# Altium integrated library Infineon_Power_MOSFET.IntLib: 1448 symbols (part 1 of 47)
Pins are listed as number, name and electrical type; pins without a type are passive.

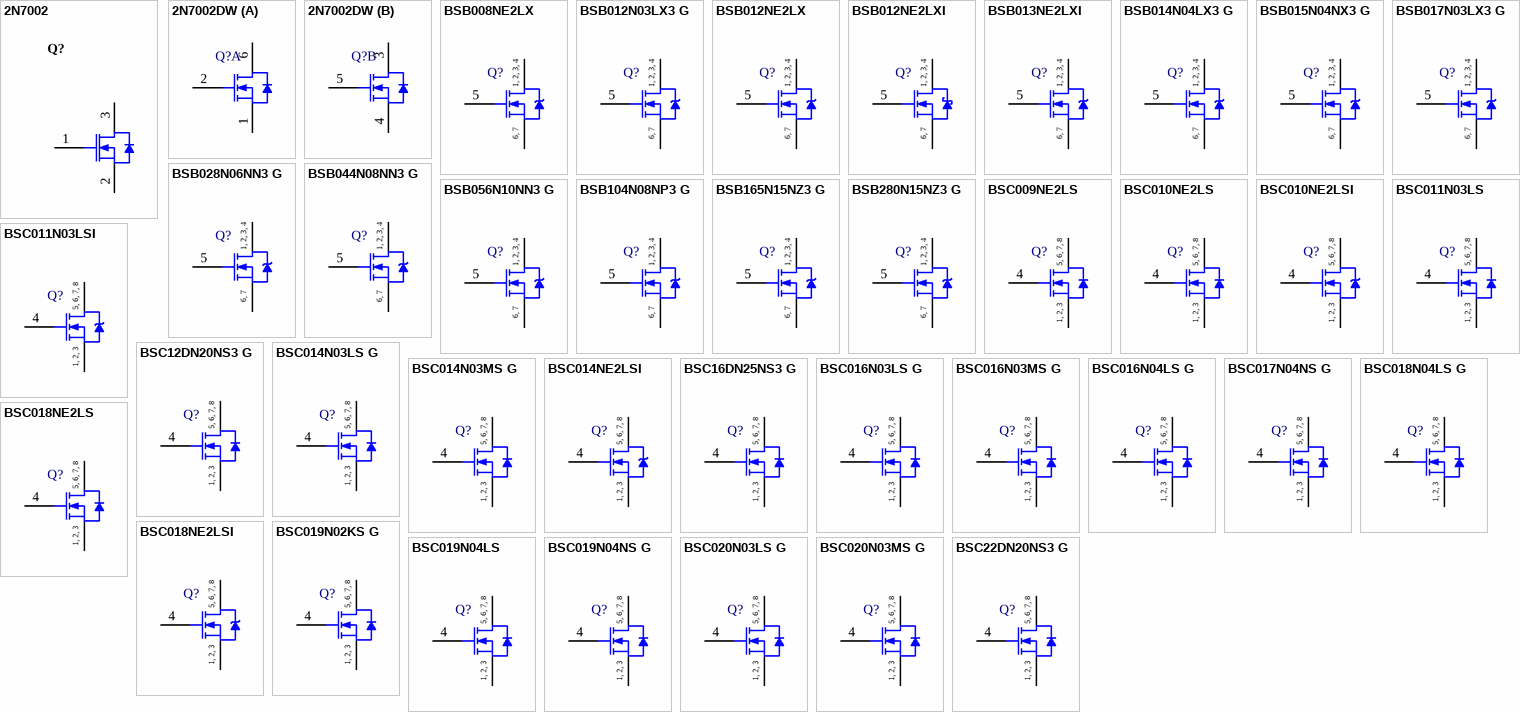
[diagram p0: symbols 2N7002 to BSC22DN20NS3 G]

## 2N7002
designator Q?
N-Channel OptiMOS Small-Signal-Transistor, 60 V VDS, 0.3 A ID, -55 to 150 degC, PG-SOT23, Reel, Green; Manufacturer: Infineon; PartNumber: 2N7002; Green: TRUE; ID (max): 0.3 A; IDpuls (max): 1.2 A; Ptot (max): 0.5 W; QG: 0.4 nC; RDS (on) (max): 3,000 mOhm; RDS (on) (max) (@4.5V): 4,000 mOhm; RthJA (max): 250 K/W; VDS (max): 60 V; VGS(th) (max): 2.5 V; VGS(th) (min): 1.5 V; DatasheetVersion: Rev. 2.4; PackageVersion: Apr-08; PackageReference: PG-SOT23; PackageDescription: 3-Pin Small Outline Transistor Package, 2.9 x 1.3 mm Body, 0.95 mm Pitch; Supplier 1: Arrow; Supplier Part Number 1: 6oGnorwKIcmhtwqcFeJ1owu1VFxg26S-d6kZGECfY84; Halogen-free: TRUE; Packing: Reel; Mounting Technology: Surface Mount; ComponentLink1Description: Manufacturer URL; ComponentLink1URL: http://www.infineon.com/; ComponentLink2Description: Datasheet; ComponentLink2URL: http://www.infineon.com/dgdl/2N7002_Rev2.4.pdf?folderId=db3a3043156fd573011622e10b5c1f67&fileId=db3a304319bc939a0119c2a9461e79e6; ComponentLink3Description: Package Specification; ComponentLink3URL: http://www.infineon.com/dgdl/SOT23-Package_Overview.pdf?folderId=db3a30431936bc4b0119532290053c66&fileId=db3a30431936bc4b0119533468123c85
footprint INF-PG-SOT23_N (SOT23, 3-Leads, Body 2.9x1.3mm, Pitch 0.95mm, IPC Medium Density)
footprint INF-PG-SOT23_L (SOT23, 3-Leads, Body 2.9x1.3mm, Pitch 0.95mm, IPC High Density)
footprint INF-PG-SOT23_M (SOT23, 3-Leads, Body 2.9x1.3mm, Pitch 0.95mm, IPC Low Density)
pins: 1 GATE, 2 SOURCE, 3 DRAIN

## 2N7002DW
designator Q?
N-Channel OptiMOS Small-Signal-Transistor, 60 V VDS, 0.3 A ID, -55 to 150 degC, PG-SOT-363, Reel, Green; Manufacturer: Infineon; PartNumber: 2N7002DW; Green: TRUE; ID (max): 0.3 A; IDpuls (max): 1.2 A; Ptot (max): 0.5 W; QG: 0.4 nC; RDS (on) (max): 3,000 mOhm; RDS (on) (max) (@4.5V): 4,000 mOhm; RthJA (max): 250 K/W; VDS (max): 60 V; VGS(th) (max): 2.5 V; VGS(th) (min): 1.5 V; DatasheetVersion: Rev. 2.2; PackageVersion: Apr-08; PackageReference: PG-SOT-363; PackageDescription: 6-Pin Small Outline Transistor Package, 2 x 1.25 mm Body, 0.65 mm Pitch; Halogen-free: TRUE; Packing: Reel; Mounting Technology: Surface Mount; ComponentLink1Description: Manufacturer URL; ComponentLink1URL: http://www.infineon.com/; ComponentLink2Description: Datasheet; ComponentLink2URL: http://www.infineon.com/dgdl/2N7002DW_Rev2.2_.pdf?folderId=db3a3043156fd573011622e10b5c1f67&fileId=db3a30431a5c32f2011ad94ed41363f2; ComponentLink3Description: Package Specification; ComponentLink3URL: http://www.infineon.com/dgdl/SOT363-Package_Overview.pdf?folderId=db3a30431936bc4b01195360bd8f3cdc&fileId=db3a30431936bc4b0119536b62bf3cf5
footprint INF-PG-SOT-363_N (SOT23, 3-Leads, Body 2x1.25mm, Pitch 0.65mm, IPC Medium Density)
footprint INF-PG-SOT-363_L (SOT23, 3-Leads, Body 2x1.25mm, Pitch 0.65mm, IPC High Density)
footprint INF-PG-SOT-363_M (SOT23, 3-Leads, Body 2x1.25mm, Pitch 0.65mm, IPC Low Density)
part A pins: 1 SOURCE (1), 2 GATE (1), 6 DRAIN (1)
part B pins: 3 DRAIN (2), 4 SOURCE (2), 5 GATE (2)

## BSB008NE2LX
designator Q?
N-Channel OptiMOS Power-MOSFET, 25 V VDS, 180 A ID, -40 to 150 degC, MG-WDSON-2-9, Reel, Green; Manufacturer: Infineon; PartNumber: BSB008NE2LX; Green: TRUE; ID (max): 180 A; IDpuls (max): 400 A; Polarity: N; Ptot (max): 89 W; QG: 258 nC; RDS (on) (max): 0.8 mOhm; RDS (on) (max) (@4.5V): 1 mOhm; Rth: 1 K/W; RthJA (max): 45 K/W; RthJC (max): 1.4 K/W; VDS (max): 25 V; VGS(th) (max): 2 V; VGS(th) (min): 1.2 V; DatasheetVersion: Rev. 1.3; PackageVersion: Jun-09; PackageReference: MG-WDSON-2-9; PackageDescription: 7-Pin Metal Green Very Very Thin Profile Dual Small Outline Non-Leaded Package; Halogen-free: TRUE; Packing: Reel; Mounting Technology: Surface Mount; ComponentLink1Description: Manufacturer URL; ComponentLink1URL: http://www.infineon.com/; ComponentLink2Description: Datasheet; ComponentLink2URL: http://www.infineon.com/dgdl/BSB008NE2LX_Rev+1.3.pdf?folderId=db3a304313b8b5a60113cee8763b02d7&fileId=db3a30432e564707012e5745ca7d000e; ComponentLink3Description: Package Specification; ComponentLink3URL: http://www.infineon.com/dgdl/MG-WDSON-2-MZ-Package_Overview.pdf?folderId=db3a30431f848401011fb831aa4a59a0&fileId=db3a30431f848401011fb8ae7cfb5a13
footprint INF-MG-WDSON-2-9_V (WDSON, 7-Leads, Body 5.5x4.93mm)
pins: 1 DRAIN, 2 DRAIN, 3 DRAIN, 4 DRAIN, 5 GATE, 6 SOURCE, 7 SOURCE
text: 1, 2, 3, 4; 6, 7

## BSB012N03LX3 G
designator Q?
N-Channel OptiMOS 3 Power-MOSFET, 30 V VDS, 180 A ID, -40 to 150 degC, MG-WDSON-2-8, Reel, Green; Manufacturer: Infineon; PartNumber: BSB012N03LX3 G; Green: TRUE; ID (max): 180 A; IDpuls (max): 400 A; Polarity: N; Ptot (max): 89 W; QG: 127 nC; RDS (on) (max): 1.2 mOhm; RDS (on) (max) (@4.5V): 1.8 mOhm; Rth: 1.4 K/W; RthJA (max): 45 K/W; RthJC (max): 1.4 K/W; VDS (max): 30 V; VGS(th) (max): 2.2 V; VGS(th) (min): 1 V; DatasheetVersion: Rev. 2.1; PackageVersion: Jun-09; PackageReference: MG-WDSON-2-8; PackageDescription: 7-Pin Metal Green Very Very Thin Profile Dual Small Outline Non-leaded Package; Supplier 1: Mouser; Supplier Part Number 1: 726-BS726-B012N03LX3; Supplier 2: Digi-Key; Supplier Part Number 2: BSB012N03LX3 GTR-ND; Supplier 3: Digi-Key; Supplier Part Number 3: BSB012N03LX3 GCT-ND; Supplier 4: Digi-Key; Supplier Part Number 4: BSB012N03LX3 GDKR-ND; Halogen-free: TRUE; Packing: Reel; Mounting Technology: Surface Mount; ComponentLink1Description: Manufacturer URL; ComponentLink1URL: http://www.infineon.com/; ComponentLink2Description: Datasheet; ComponentLink2URL: http://www.infineon.com/dgdl/BSB012N03LX3+G_Rev_+2.1_pdf.pdf?folderId=db3a304313b8b5a60113cee8763b02d7&fileId=db3a304320d39d590121a0112ce07a8b; ComponentLink3Description: Package Specification; ComponentLink3URL: http://www.infineon.com/dgdl/MG-WDSON-2-MX-Package_Overview.pdf?folderId=db3a30431f848401011fb8316d98599f&fileId=db3a30431f848401011fb8a9e1645a0a
footprint INF-MG-WDSON-2-8_V (WDSON, 7-Leads, Body 5.5x4.93mm)
pins: 1 DRAIN, 2 DRAIN, 3 DRAIN, 4 DRAIN, 5 GATE, 6 SOURCE, 7 SOURCE
text: 1, 2, 3, 4; 6, 7

## BSB012NE2LX
designator Q?
N-Channe OptiMOS Power-MOSFET, 25 V VDS, 170 A ID, -40 to 150 degC, MG-WDSON-2-8, Reel, Green; Manufacturer: Infineon; PartNumber: BSB012NE2LX; Green: TRUE; ID (max): 170 A; IDpuls (max): 400 A; Polarity: N; Ptot (max): 57 W; QG: 32 nC; RDS (on) (max): 1.2 mOhm; RDS (on) (max) (@4.5V): 1.6 mOhm; Rth: 1 K/W; RthJA (max): 45 K/W; RthJC (max): 2.2 K/W; VDS (max): 25 V; VGS(th) (max): 2 V; VGS(th) (min): 1.2 V; DatasheetVersion: Rev. 2.3; PackageVersion: Jun-09; PackageReference: MG-WDSON-2-8; PackageDescription: 7-Pin Metal Green Very Very Thin Profile Dual Small Outline Non-leaded Package; Supplier 1: Mouser; Supplier Part Number 1: 726-BSB012NE2LX; Supplier 2: Digi-Key; Supplier Part Number 2: BSB012NE2LXTR-ND; Supplier 3: Digi-Key; Supplier Part Number 3: BSB012NE2LXCT-ND; Supplier 4: Digi-Key; Supplier Part Number 4: BSB012NE2LXDKR-ND; Halogen-free: TRUE; Packing: Reel; Mounting Technology: Surface Mount; ComponentLink1Description: Manufacturer URL; ComponentLink1URL: http://www.infineon.com/; ComponentLink2Description: Datasheet; ComponentLink2URL: http://www.infineon.com/dgdl/BSB012NE2LX_Rev+2.3.pdf?folderId=db3a304326dfb1300126fb3bec803f1a&fileId=db3a304326dfb1300126fb6a32613f3d; ComponentLink3Description: Package Specification; ComponentLink3URL: http://www.infineon.com/dgdl/MG-WDSON-2-MX-Package_Overview.pdf?folderId=db3a30431f848401011fb8316d98599f&fileId=db3a30431f848401011fb8a9e1645a0a
footprint INF-MG-WDSON-2-8_V (WDSON, 7-Leads, Body 5.5x4.93mm)
pins: 1 DRAIN, 2 DRAIN, 3 DRAIN, 4 DRAIN, 5 GATE, 6 SOURCE, 7 SOURCE
text: 1, 2, 3, 4; 6, 7

## BSB012NE2LXI
designator Q?
N-Channel OptiMOS(TM) Power-MOSFET, 25 V VDS, 170 A ID, -40 to 150 degC, MG-WDSON-2, Reel, Green; Manufacturer: Infineon; PartNumber: BSB012NE2LXI; Green: TRUE; ID (max): 170 A; IDpuls (max): 400 A; Polarity: FALSE; Ptot (max): 57 W; QG: 30 nC; RDS (on) (max): 1.2 mOhm; RthJA (max): 45 K/W; RthJC (max): 1 K/W; VDS (max): 25 V; VGS(th) (max): 2 V; VGS(th) (min): 1.2 V; DatasheetVersion: Rev. 1.3; PackageVersion: Jun-09; PackageReference: MG-WDSON-2-8; PackageDescription: 7-Pin Metal Green Very Very Thin Profile Dual Small Outline Non-leaded Package; Supplier 1: Mouser; Supplier Part Number 1: N/A; Halogen-free: TRUE; Packing: Reel; Technology: OptiMOS(TM); Mounting Technology: Surface Mount; ComponentLink1Description: Manufacturer URL; ComponentLink1URL: http://www.infineon.com/; ComponentLink2Description: Datasheet; ComponentLink2URL: http://www.infineon.com/dgdl/BSB012NE2LXI_rev1.3.pdf?folderId=db3a304313b8b5a60113cee8763b02d7&fileId=db3a30433f764301013f805e3eb247c1; ComponentLink3Description: Package Specification; ComponentLink3URL: http://www.infineon.com/dgdl/MG-WDSON-2-MX-Package_Overview.pdf?folderId=db3a30431f848401011fb8316d98599f&fileId=db3a30431f848401011fb8a9e1645a0a
footprint INF-MG-WDSON-2-8_V (WDSON, 7-Leads, Body 5.5x4.93mm)
pins: 1 D, 2 D, 3 D, 4 D, 5 G, 6 S, 7 S
text: 1, 2, 3, 4; 6, 7

## BSB013NE2LXI
designator Q?
N-Channel OptiMOS Power MOSFET, 25 V VDS, 163 A ID, -40 to 150 degC, MG-WDSON-2-8, Reel, Green; Manufacturer: Infineon; PartNumber: BSB013NE2LXI; Green: TRUE; ID (max): 163 A; IDpuls (max): 400 A; Polarity: N; Ptot (max): 57 W; QG: 30 nC; RDS (on) (max): 1.3 mOhm; RDS (on) (max) (@4.5V): 1.8 mOhm; Rth: 1 K/W; RthJA (max): 45 K/W; RthJC (max): 2.2 K/W; VDS (max): 25 V; VGS(th) (max): 2 V; VGS(th) (min): 1.2 V; DatasheetVersion: Rev. 2.3; PackageVersion: Jun-09; PackageReference: MG-WDSON-2-8; PackageDescription: 7-Pin Metal Green Very Very Thin Profile Dual Small Outline Non-leaded Package; Supplier 1: Mouser; Supplier Part Number 1: 726-BSB013NE2LXI; Supplier 2: Digi-Key; Supplier Part Number 2: BSB013NE2LXITR-ND; Supplier 3: Digi-Key; Supplier Part Number 3: BSB013NE2LXICT-ND; Supplier 4: Digi-Key; Supplier Part Number 4: BSB013NE2LXIDKR-ND; Halogen-free: TRUE; Packing: Reel; Mounting Technology: Surface Mount; ComponentLink1Description: Manufacturer URL; ComponentLink1URL: http://www.infineon.com/; ComponentLink2Description: Datasheet; ComponentLink2URL: http://www.infineon.com/dgdl/BSB013NE2LXI_Rev+2.3.pdf?folderId=db3a304313b8b5a60113cee8763b02d7&fileId=db3a30432e398416012e47a158802577; ComponentLink3Description: Package Specification; ComponentLink3URL: http://www.infineon.com/dgdl/MG-WDSON-2-MX-Package_Overview.pdf?folderId=db3a30431f848401011fb8316d98599f&fileId=db3a30431f848401011fb8a9e1645a0a
footprint INF-MG-WDSON-2-8_V (WDSON, 7-Leads, Body 5.5x4.93mm)
pins: 1 DRAIN, 2 DRAIN, 3 DRAIN, 4 DRAIN, 5 GATE, 6 SOURCE, 7 SOURCE
text: 1, 2, 3, 4; 6, 7

## BSB014N04LX3 G
designator Q?
N-Channel OptiMOS Power-MOSFET, 40 V VDS, 180 A ID, -40 to 150 degC, MG-WDSON-2-8, Reel, Green; Manufacturer: Infineon; PartNumber: BSB014N04LX3 G; Green: TRUE; ID (max): 180 A; IDpuls (max): 400 A; Polarity: N; Ptot (max): 89 W; QG: 148 nC; RDS (on) (max): 1.4 mOhm; RDS (on) (max) (@4.5V): 2 mOhm; Rth: 1.4 K/W; RthJA (max): 45 K/W; VDS (max): 40 V; VGS(th) (max): 2 V; VGS(th) (min): 1.2 V; DatasheetVersion: Rev. 2.3; PackageVersion: Jun-09; PackageReference: MG-WDSON-2-8; PackageDescription: 7-Pin Metal Green Very Very Thin Profile Dual Small Outline Non-leaded Package; Supplier 1: Mouser; Supplier Part Number 1: 726-BS726-B014N04LX3; Supplier 2: Digi-Key; Supplier Part Number 2: BSB014N04LX3 GTR-ND; Supplier 3: Digi-Key; Supplier Part Number 3: BSB014N04LX3 GCT-ND; Supplier 4: Digi-Key; Supplier Part Number 4: BSB014N04LX3 GDKR-ND; Halogen-free: TRUE; Packing: Reel; RthJC (max): 1.4 K/W; Mounting Technology: Surface Mount; ComponentLink1Description: Manufacturer URL; ComponentLink1URL: http://www.infineon.com/; ComponentLink2Description: Datasheet; ComponentLink2URL: http://www.infineon.com/dgdl/BSB014N04LX3+G_Rev+2.3.pdf?folderId=db3a304313b8b5a60113cee8763b02d7&fileId=db3a304320d39d590121a02c6c737a9b; ComponentLink3Description: Package Specification; ComponentLink3URL: http://www.infineon.com/dgdl/MG-WDSON-2-MX-Package_Overview.pdf?folderId=db3a30431f848401011fb8316d98599f&fileId=db3a30431f848401011fb8a9e1645a0a
footprint INF-MG-WDSON-2-8_V (WDSON, 7-Leads, Body 5.5x4.93mm)
pins: 1 DRAIN, 2 DRAIN, 3 DRAIN, 4 DRAIN, 5 GATE, 6 SOURCE, 7 SOURCE
text: 1, 2, 3, 4; 6, 7

## BSB015N04NX3 G
designator Q?
N-Channel OptiMOS Power-MOSFET, 40 V VDS, 180 A ID, -40 to 150 degC, MG-WDSON-2-8, Reel, Green; Manufacturer: Infineon; PartNumber: BSB015N04NX3 G; Green: TRUE; ID (max): 180 A; IDpuls (max): 400 A; Polarity: N; Ptot (max): 89 W; QG: 107 nC; RDS (on) (max): 1.5 mOhm; Rth: 1.4 K/W; RthJA (max): 45 K/W; VDS (max): 40 V; VGS(th) (max): 4 V; VGS(th) (min): 2 V; DatasheetVersion: Rev. 2.4; PackageVersion: Jun-09; PackageReference: MG-WDSON-2-8; PackageDescription: 7-Pin Metal Green Very Very Thin Profile Dual Small Outline Non-leaded Package; Supplier 1: Mouser; Supplier Part Number 1: 726-BS726-B015N04NX3; Supplier 2: Digi-Key; Supplier Part Number 2: BSB015N04NX3 GTR-ND; Supplier 3: Digi-Key; Supplier Part Number 3: BSB015N04NX3 GCT-ND; Supplier 4: Digi-Key; Supplier Part Number 4: BSB015N04NX3 GDKR-ND; Halogen-free: TRUE; Packing: Reel; RthJC (max): 1.4 K/W; Mounting Technology: Surface Mount; ComponentLink1Description: Manufacturer URL; ComponentLink1URL: http://www.infineon.com/; ComponentLink2Description: Datasheet; ComponentLink2URL: http://www.infineon.com/dgdl/BSB015N04NX3+G_Rev+2.4.pdf?folderId=db3a304313b8b5a60113cee8763b02d7&fileId=db3a304320d39d590121a03bbfcd7aac; ComponentLink3Description: Package Specification; ComponentLink3URL: http://www.infineon.com/dgdl/MG-WDSON-2-MX-Package_Overview.pdf?folderId=db3a30431f848401011fb8316d98599f&fileId=db3a30431f848401011fb8a9e1645a0a
footprint INF-MG-WDSON-2-8_V (WDSON, 7-Leads, Body 5.5x4.93mm)
pins: 1 DRAIN, 2 DRAIN, 3 DRAIN, 4 DRAIN, 5 GATE, 6 SOURCE, 7 SOURCE
text: 1, 2, 3, 4; 6, 7

## BSB017N03LX3 G
designator Q?
N-Channel OptiMOS Power-MOSFET, 30 V VDS, 147 A ID, -40 to 150 degC, MG-WDSON-2-8, Reel, Green; Manufacturer: Infineon; PartNumber: BSB017N03LX3 G; Green: TRUE; ID (max): 147 A; IDpuls (max): 400 A; Polarity: N; Ptot (max): 57 W; QG: 37 nC; RDS (on) (max): 1.7 mOhm; RDS (on) (max) (@4.5V): 2.5 mOhm; Rth: 2.2 K/W; RthJA (max): 45 K/W; RthJC (max): 2.2 K/W; VDS (max): 30 V; VGS(th) (max): 2.2 V; VGS(th) (min): 1 V; DatasheetVersion: Rev. 2.2; PackageVersion: Jun-09; PackageReference: MG-WDSON-2-8; PackageDescription: 7-Pin Metal Green Very Very Thin Profile Dual Small Outline Non-leaded Package; Supplier 1: Mouser; Supplier Part Number 1: 726-BSB017N03LX3G; Supplier 2: Digi-Key; Supplier Part Number 2: BSB017N03LX3 GTR-ND; Supplier 3: Digi-Key; Supplier Part Number 3: BSB017N03LX3 GCT-ND; Supplier 4: Digi-Key; Supplier Part Number 4: BSB017N03LX3 GDKR-ND; Halogen-free: TRUE; Packing: Reel; Mounting Technology: Surface Mount; ComponentLink1Description: Manufacturer URL; ComponentLink1URL: http://www.infineon.com/; ComponentLink2Description: Datasheet; ComponentLink2URL: http://www.infineon.com/dgdl/BSB017N03LX3+G_Rev+2.2.pdf?folderId=db3a304313b8b5a60113cee8763b02d7&fileId=db3a304320d39d590121a04b132c7abb; ComponentLink3Description: Package Specification; ComponentLink3URL: http://www.infineon.com/dgdl/MG-WDSON-2-MX-Package_Overview.pdf?folderId=db3a30431f848401011fb8316d98599f&fileId=db3a30431f848401011fb8a9e1645a0a
footprint INF-MG-WDSON-2-8_V (WDSON, 7-Leads, Body 5.5x4.93mm)
pins: 1 DRAIN, 2 DRAIN, 3 DRAIN, 4 DRAIN, 5 GATE, 6 SOURCE, 7 SOURCE
text: 1, 2, 3, 4; 6, 7

## BSB028N06NN3 G
designator Q?
N-Channel OptiMOS 3 Power-MOSFET, 60 V VDS, 90 A ID, -40 to 150 degC, MG-WDSON-2-5, Reel, Green; Manufacturer: Infineon; PartNumber: BSB028N06NN3 G; Green: TRUE; ID (max): 90 A; IDpuls (max): 360 A; Polarity: N; Ptot (max): 78 W; QG: 108 nC; RDS (on) (max): 2.8 mOhm; Rth: 1 K/W; RthJA (max): 58 K/W; RthJC (max): 1.6 K/W; VDS (max): 60 V; VGS(th) (max): 4 V; VGS(th) (min): 2 V; DatasheetVersion: Rev. 2.0; PackageVersion: Jun-09; PackageReference: MG-WDSON-2-5; PackageDescription: 7-Pin Metal Green Very Very Thin Profile Dual Small Outline Non-Leaded Package; Supplier 1: Mouser; Supplier Part Number 1: 726-BSB028N06NN3G; Supplier 2: Digi-Key; Supplier Part Number 2: BSB028N06NN3 GTR-ND; Supplier 3: Digi-Key; Supplier Part Number 3: BSB028N06NN3 GCT-ND; Supplier 4: Digi-Key; Supplier Part Number 4: BSB028N06NN3 GDKR-ND; Halogen-free: TRUE; Packing: Reel; Mounting Technology: Surface Mount; ComponentLink1Description: Manufacturer URL; ComponentLink1URL: http://www.infineon.com/; ComponentLink2Description: Datasheet; ComponentLink2URL: http://www.infineon.com/dgdl/BSB028N06NN3_G_rev2.pdf?folderId=db3a30431441fb5d01148ca9f1be0e77&fileId=db3a30432e25b009012e29fda4e23838; ComponentLink3Description: Package Specification; ComponentLink3URL: http://www.infineon.com/dgdl/MG-WDSON-2-MN-Package_Overview.pdf?folderId=db3a30431f848401011fb830e5dc599d&fileId=db3a30431f848401011fb857204159b9
footprint INF-MG-WDSON-2-5_V (WDSON, 7-Leads, Body 5.5x4.93mm)
pins: 1 DRAIN, 2 DRAIN, 3 DRAIN, 4 DRAIN, 5 GATE, 6 SOURCE, 7 SOURCE
text: 1, 2, 3, 4; 6, 7

## BSB044N08NN3 G
designator Q?
N-Channel OptiMOS 3 Power-MOSFET, 80 V VDS, 90 A ID, -40 to 150 degC, MG-WDSON-2-5, Reel, Green; Manufacturer: Infineon; PartNumber: BSB044N08NN3 G; Green: TRUE; ID (max): 90 A; IDpuls (max): 360 A; Polarity: N; Ptot (max): 78 W; QG: 55 nC; RDS (on) (max): 4.4 mOhm; Rth: 1 K/W; RthJA (max): 58 K/W; RthJC (max): 1.6 K/W; VDS (max): 80 V; VGS(th) (max): 3.5 V; VGS(th) (min): 2 V; DatasheetVersion: Rev. 2.0; PackageVersion: Jun-09; PackageReference: MG-WDSON-2-5; PackageDescription: 7-Pin Metal Green Very Very Thin Profile Dual Small Outline Non-Leaded Package; Supplier 1: Mouser; Supplier Part Number 1: 726-BSB044N08NN3G; Supplier 2: Digi-Key; Supplier Part Number 2: BSB044N08NN3 GTR-ND; Supplier 3: Digi-Key; Supplier Part Number 3: BSB044N08NN3 GCT-ND; Supplier 4: Digi-Key; Supplier Part Number 4: BSB044N08NN3 GDKR-ND; Halogen-free: TRUE; Packing: Reel; Mounting Technology: Surface Mount; ComponentLink1Description: Manufacturer URL; ComponentLink1URL: http://www.infineon.com/; ComponentLink2Description: Datasheet; ComponentLink2URL: http://www.infineon.com/dgdl/BSB044N08NN3_G_rev2.pdf?folderId=db3a304313b8b5a60113cee8763b02d7&fileId=db3a30435819ae2e012e385cde7b70d4; ComponentLink3Description: Package Specification; ComponentLink3URL: http://www.infineon.com/dgdl/MG-WDSON-2-MN-Package_Overview.pdf?folderId=db3a30431f848401011fb830e5dc599d&fileId=db3a30431f848401011fb857204159b9
footprint INF-MG-WDSON-2-5_V (WDSON, 7-Leads, Body 5.5x4.93mm)
pins: 1 DRAIN, 2 DRAIN, 3 DRAIN, 4 DRAIN, 5 GATE, 6 SOURCE, 7 SOURCE
text: 1, 2, 3, 4; 6, 7

## BSB056N10NN3 G
designator Q?
N-Channel OptiMOS Power-MOSFET, 100 V VDS, 83 A ID, -40 to 150 degC, MG-WDSON-2-5, Reel, Green; Manufacturer: Infineon; PartNumber: BSB056N10NN3 G; Green: TRUE; ID (max): 83 A; IDpuls (max): 332 A; Polarity: N; Ptot (max): 78 W; QG: 56 nC; RDS (on) (max): 5.6 mOhm; Rth: 1.6 K/W; RthJA (max): 45 K/W; RthJC (max): 1.6 K/W; VDS (max): 100 V; VGS(th) (max): 3.5 V; VGS(th) (min): 2 V; DatasheetVersion: Rev. 2.5; PackageVersion: Jun-09; PackageReference: MG-WDSON-2-5; PackageDescription: 7-Pin Metal Green Very Very Thin Profile Dual Small Outline Non-Leaded Package; Supplier 1: Mouser; Supplier Part Number 1: 726-BSB056N10NN3G; Supplier 2: Digi-Key; Supplier Part Number 2: BSB056N10NN3 GTR-ND; Supplier 3: Digi-Key; Supplier Part Number 3: BSB056N10NN3 GCT-ND; Supplier 4: Digi-Key; Supplier Part Number 4: BSB056N10NN3 GDKR-ND; Halogen-free: TRUE; Packing: Reel; Mounting Technology: Surface Mount; ComponentLink1Description: Manufacturer URL; ComponentLink1URL: http://www.infineon.com/; ComponentLink2Description: Datasheet; ComponentLink2URL: http://www.infineon.com/dgdl/BSB056N10NN3+G_Rev+2.5.pdf?folderId=db3a304313b8b5a60113cee8763b02d7&fileId=db3a30442e152e91012e390b9a631459; ComponentLink3Description: Package Specification; ComponentLink3URL: http://www.infineon.com/dgdl/MG-WDSON-2-MN-Package_Overview.pdf?folderId=db3a30431f848401011fb830e5dc599d&fileId=db3a30431f848401011fb857204159b9
footprint INF-MG-WDSON-2-5_V (WDSON, 7-Leads, Body 5.5x4.93mm)
pins: 1 DRAIN, 2 DRAIN, 3 DRAIN, 4 DRAIN, 5 GATE, 6 SOURCE, 7 SOURCE
text: 1, 2, 3, 4; 6, 7

## BSB104N08NP3 G
designator Q?
N-Channel OptiMOS(TM) 3 Power-MOSFET, 80 V VDS, 50 A ID, MG-WDSON-2, Reel, Green; Manufacturer: Infineon; PartNumber: BSB104N08NP3 G; Green: TRUE; ID (max): 50 A; IDpuls (max): 200 A; Polarity: N; Ptot (max): 42 W; QG: 23 nC; RDS (on) (max): 10.4 Ohm; RthJA (max): 45 K/W; RthJC (max): 3 K/W; VDS (max): 80 V; VGS(th) (max): 3.5 V; VGS(th) (min): 2 V; DatasheetVersion: Rev. 2.1; PackageVersion: Jun-09; PackageReference: MG-WDSON-2-6; PackageDescription: 6-Pin Metal Green Very Very Thin Profile Dual Small Outline Non-leaded Package, 6.3 x 4.93 mm Body; Halogen-free: TRUE; Packing: Reel; Technology: OptiMOS(TM) 3; Mounting Technology: Surface Mount; ComponentLink1Description: Manufacturer URL; ComponentLink1URL: http://www.infineon.com/; ComponentLink2Description: Datasheet; ComponentLink2URL: http://www.infineon.com/dgdl/BSB104N08NP3_G_rev2.1_.pdf?folderId=db3a304313b8b5a60113cee8763b02d7&fileId=db3a304341e0aed00141efc548ca1b2b; ComponentLink3Description: Package Specification; ComponentLink3URL: http://www.infineon.com/dgdl/MG-WDSON-2-MP-Package_Overview.pdf?folderId=db3a30431f848401011fb8312917599e&fileId=db3a30431f848401011fb89a218659ef
footprint INF-MG-WDSON-2-6_V (WDSON, 7-Leads, Body 4.93x6.3mm)
pins: 1 DRAIN, 2 DRAIN, 3 DRAIN, 4 DRAIN, 5 GATE, 6 SOURCE, 7 SOURCE
text: 1, 2, 3, 4; 6, 7

## BSB165N15NZ3 G
designator Q?
N-Channel OptiMOS Power-MOSFET, 150 V VDS, 45 A ID, -40 to 150 degC, MG-WDSON-2-9, Reel, Green; Manufacturer: Infineon; PartNumber: BSB165N15NZ3 G; Green: TRUE; ID (max): 45 A; IDpuls (max): 180 A; Polarity: N; Ptot (max): 78 W; QG: 26 nC; RDS (on) (max): 16.5 mOhm; Rth: 1.6 K/W; RthJA (max): 45 K/W; RthJC (max): 1.6 K/W; VDS (max): 150 V; VGS(th) (max): 4 V; VGS(th) (min): 2 V; DatasheetVersion: Rev. 2.2; PackageVersion: Jun-09; PackageReference: MG-WDSON-2-9; PackageDescription: 7-Pin Metal Green Very Very Thin Profile Dual Small Outline Non-Leaded Package; Supplier 1: Mouser; Supplier Part Number 1: 726-BSB165N15NZ3G; Supplier 2: Digi-Key; Supplier Part Number 2: BSB165N15NZ3 GTR-ND; Supplier 3: Digi-Key; Supplier Part Number 3: BSB165N15NZ3 GCT-ND; Supplier 4: Digi-Key; Supplier Part Number 4: BSB165N15NZ3 GDKR-ND; Halogen-free: TRUE; Packing: Reel; Mounting Technology: Surface Mount; ComponentLink1Description: Manufacturer URL; ComponentLink1URL: http://www.infineon.com/; ComponentLink2Description: Datasheet; ComponentLink2URL: http://www.infineon.com/dgdl/BSB165N15NZ3+G+Rev+2.2.pdf?folderId=db3a304326623792012669f6bee2224b&fileId=db3a30432e779412012e7b04a1353843; ComponentLink3Description: Package Specification; ComponentLink3URL: http://www.infineon.com/dgdl/MG-WDSON-2-MZ-Package_Overview.pdf?folderId=db3a30431f848401011fb831aa4a59a0&fileId=db3a30431f848401011fb8ae7cfb5a13
footprint INF-MG-WDSON-2-9_V (WDSON, 7-Leads, Body 5.5x4.93mm)
pins: 1 DRAIN, 2 DRAIN, 3 DRAIN, 4 DRAIN, 5 GATE, 6 SOURCE, 7 SOURCE
text: 1, 2, 3, 4; 6, 7

## BSB280N15NZ3 G
designator Q?
N-Channel OptiMOS Power-MOSFET, 150 V VDS, 30 A ID, -40 to 150 degC, MG-WDSON-2-9, Reel, Green; Manufacturer: Infineon; PartNumber: BSB280N15NZ3 G; Green: TRUE; ID (max): 30 A; IDpuls (max): 120 A; Polarity: N; Ptot (max): 57 W; QG: 15 nC; RDS (on) (max): 28 mOhm; Rth: 2.2 K/W; RthJA (max): 45 K/W; RthJC (max): 2.2 K/W; VDS (max): 150 V; VGS(th) (max): 4 V; VGS(th) (min): 2 V; DatasheetVersion: Rev. 2.5; PackageVersion: Jun-09; PackageReference: MG-WDSON-2-9; PackageDescription: 7-Pin Metal Green Very Very Thin Profile Dual Small Outline Non-Leaded Package; Supplier 1: Mouser; Supplier Part Number 1: 726-BSB280N15NZ3G; Supplier 2: Digi-Key; Supplier Part Number 2: BSB280N15NZ3 GTR-ND; Supplier 3: Digi-Key; Supplier Part Number 3: BSB280N15NZ3 GCT-ND; Supplier 4: Digi-Key; Supplier Part Number 4: BSB280N15NZ3 GDKR-ND; Halogen-free: TRUE; Packing: Reel; Mounting Technology: Surface Mount; ComponentLink1Description: Manufacturer URL; ComponentLink1URL: http://www.infineon.com/; ComponentLink2Description: Datasheet; ComponentLink2URL: http://www.infineon.com/dgdl/BSB280N15NZ3+G+Rev+2.5_.pdf?folderId=db3a304326623792012669f6bee2224b&fileId=db3a30432e779412012e7b0b544c3852; ComponentLink3Description: Package Specification; ComponentLink3URL: http://www.infineon.com/dgdl/MG-WDSON-2-MZ-Package_Overview.pdf?folderId=db3a30431f848401011fb831aa4a59a0&fileId=db3a30431f848401011fb8ae7cfb5a13
footprint INF-MG-WDSON-2-9_V (WDSON, 7-Leads, Body 5.5x4.93mm)
pins: 1 DRAIN, 2 DRAIN, 3 DRAIN, 4 DRAIN, 5 GATE, 6 SOURCE, 7 SOURCE
text: 1, 2, 3, 4; 6, 7

## BSC009NE2LS
designator Q?
N-Channel OptiMOS Power-MOSFET, 25 V VDS, 100 A ID, -55 to 150 degC, PG-TDSON-8-1, Reel, Green; Manufacturer: Infineon; PartNumber: BSC009NE2LS; Green: TRUE; ID (max): 100 A; IDpuls (max): 400 A; Polarity: N; Ptot (max): 96 W; QG: 72 nC; RDS (on) (max): 0.9 mOhm; RDS (on) (max) (@4.5V): 1.2 mOhm; Rth: 1.3 K/W; RthJA (max): 50 K/W; RthJC (max): 1.3 K/W; VDS (max): 25 V; VGS(th) (max): 2.2 V; VGS(th) (min): 1 V; DatasheetVersion: Rev. 2.1; PackageReference: PG-TDSON-8-1; PackageDescription: 8-Pin Plastic (Green) Thin Dual Small Outline Non-Leaded Package, 5.15 x 5.9 mm Body, 1.27 mm Pitch; Supplier 1: Digi-Key; Supplier Part Number 1: BSC009NE2LSTR-ND; Supplier 2: Digi-Key; Supplier Part Number 2: BSC009NE2LSCT-ND; Supplier 3: Digi-Key; Supplier Part Number 3: BSC009NE2LSDKR-ND; Halogen-free: TRUE; Packing: Reel; Mounting Technology: Surface Mount; ComponentLink1Description: Manufacturer URL; ComponentLink1URL: http://www.infineon.com/; ComponentLink2Description: Datasheet; ComponentLink2URL: http://www.infineon.com/dgdl/BSC009NE2LS_Rev+2.1.pdf?folderId=db3a304313b8b5a60113cee8763b02d7&fileId=db3a304332d040720132dd4232240e1d; ComponentLink3Description: Package Specification; ComponentLink3URL: http://www.infineon.com/cms/packages/SMD_-_Surface_Mounted_Devices/P-PG-TDSON/P-PG-TDSON-08-01x_2x_3.html?__locale=en
footprint INF-PG-TDSON-8-1_V (TDSON, 8-Leads, Body 6.15x5.15mm, Pitch 1.27mm)
pins: 1 SOURCE, 2 SOURCE, 3 SOURCE, 4 GATE, 5 DRAIN, 6 DRAIN, 7 DRAIN, 8 DRAIN
text: 5, 6, 7, 8; 1, 2, 3

## BSC010NE2LS
designator Q?
N-Channel Power MOSFET, 25 V VDS, 100 A ID, -55 to 150 degC, PG-TDSON-8-1, Reel, Green; Manufacturer: Infineon; PartNumber: BSC010NE2LS; Green: TRUE; ID (max): 100 A; IDpuls (max): 400 A; Polarity: N; Ptot (max): 96 W; QG: 64 nC; RDS (on) (max): 1 mOhm; RDS (on) (max) (@4.5V): 1.3 mOhm; Rth: 1.3 K/W; RthJA (max): 50 K/W; RthJC (max): 1.3 K/W; VDS (max): 25 V; VGS(th) (max): 2 V; VGS(th) (min): 1.2 V; DatasheetVersion: Rev. 2.1; PackageReference: PG-TDSON-8-1; PackageDescription: 8-Pin Plastic (Green) Thin Dual Small Outline Non-Leaded Package, 5.15 x 5.9 mm Body, 1.27 mm Pitch; Supplier 1: Mouser; Supplier Part Number 1: 726-BSC010NE2LS; Supplier 2: Digi-Key; Supplier Part Number 2: BSC010NE2LSTR-ND; Supplier 3: Digi-Key; Supplier Part Number 3: BSC010NE2LSCT-ND; Supplier 4: Digi-Key; Supplier Part Number 4: BSC010NE2LSDKR-ND; Halogen-free: TRUE; Packing: Reel; Mounting Technology: Surface Mount; ComponentLink1Description: Manufacturer URL; ComponentLink1URL: http://www.infineon.com/; ComponentLink2Description: Datasheet; ComponentLink2URL: http://www.infineon.com/dgdl/BSC010NE2LS_Rev+2.1.pdf?folderId=db3a304326dfb1300126fb3bec803f1a&fileId=db3a304326dfb1300126fb3d176a3f1b; ComponentLink3Description: Package Specification; ComponentLink3URL: http://www.infineon.com/cms/packages/SMD_-_Surface_Mounted_Devices/P-PG-TDSON/P-PG-TDSON-08-01x_2x_3.html?__locale=en
footprint INF-PG-TDSON-8-1_V (TDSON, 8-Leads, Body 6.15x5.15mm, Pitch 1.27mm)
pins: 1 SOURCE, 2 SOURCE, 3 SOURCE, 4 GATE, 5 DRAIN, 6 DRAIN, 7 DRAIN, 8 DRAIN
text: 5, 6, 7, 8; 1, 2, 3

## BSC010NE2LSI
designator Q?
N-Channel Power MOSFET, 25 V VDS, 100 A ID, -55 to 150 degC, PG-TDSON-8-1, Reel, Green; Manufacturer: Infineon; PartNumber: BSC010NE2LSI; Green: TRUE; ID (max): 100 A; IDpuls (max): 400 A; Polarity: N; Ptot (max): 96 W; QG: 59 nC; RDS (on) (max): 15 mOhm; RDS (on) (max) (@4.5V): 1.4 mOhm; Rth: 1.3 K/W; RthJA (max): 50 K/W; RthJC (max): 1.3 K/W; VDS (max): 25 V; VGS(th) (max): 2 V; VGS(th) (min): 1.2 V; DatasheetVersion: Rev. 2.1; PackageReference: PG-TDSON-8-1; PackageDescription: 8-Pin Plastic (Green) Thin Dual Small Outline Non-Leaded Package, 5.15 x 5.9 mm Body, 1.27 mm Pitch; Supplier 1: Mouser; Supplier Part Number 1: 726-BSC010NE2LSI; Supplier 2: Digi-Key; Supplier Part Number 2: BSC010NE2LSITR-ND; Supplier 3: Digi-Key; Supplier Part Number 3: BSC010NE2LSICT-ND; Supplier 4: Digi-Key; Supplier Part Number 4: BSC010NE2LSIDKR-ND; Halogen-free: TRUE; Packing: Reel; Mounting Technology: Surface Mount; ComponentLink1Description: Manufacturer URL; ComponentLink1URL: http://www.infineon.com/; ComponentLink2Description: Datasheet; ComponentLink2URL: http://www.infineon.com/dgdl/BSC010NE2LSI_Rev+2.1_.pdf?folderId=db3a304313b8b5a60113cee8763b02d7&fileId=db3a30433072cd8f01308d8d1cdf33de; ComponentLink3Description: Package Specification; ComponentLink3URL: http://www.infineon.com/cms/packages/SMD_-_Surface_Mounted_Devices/P-PG-TDSON/P-PG-TDSON-08-01x_2x_3.html?__locale=en
footprint INF-PG-TDSON-8-1_V (TDSON, 8-Leads, Body 6.15x5.15mm, Pitch 1.27mm)
pins: 1 SOURCE, 2 SOURCE, 3 SOURCE, 4 GATE, 5 DRAIN, 6 DRAIN, 7 DRAIN, 8 DRAIN
text: 5, 6, 7, 8; 1, 2, 3

## BSC011N03LS
designator Q?
N-Channel OptiMOS Power-MOSFET, 30 V VDS, 100 A ID, -55 to 150 degC, PG-TDSON-8-1, Reel, Green; Manufacturer: Infineon; PartNumber: BSC011N03LS; Green: TRUE; ID (max): 100 A; IDpuls (max): 400 A; Polarity: N; Ptot (max): 96 W; QG: 72 nC; RDS (on) (max): 1.1 mOhm; RDS (on) (max) (@4.5V): 1.4 mOhm; Rth: 1.3 K/W; RthJA (max): 50 K/W; RthJC (max): 1.3 K/W; VDS (max): 30 V; VGS(th) (max): 2 V; VGS(th) (min): 1.2 V; DatasheetVersion: Rev. 2.1; PackageReference: PG-TDSON-8-1; PackageDescription: 8-Pin Plastic (Green) Thin Dual Small Outline Non-Leaded Package, 5.15 x 5.9 mm Body, 1.27 mm Pitch; Supplier 1: Mouser; Supplier Part Number 1: 726-BSC011N03LS; Supplier 2: Digi-Key; Supplier Part Number 2: BSC011N03LSTR-ND; Supplier 3: Digi-Key; Supplier Part Number 3: BSC011N03LSCT-ND; Supplier 4: Digi-Key; Supplier Part Number 4: BSC011N03LSDKR-ND; Halogen-free: TRUE; Packing: Reel; Mounting Technology: Surface Mount; ComponentLink1Description: Manufacturer URL; ComponentLink1URL: http://www.infineon.com/; ComponentLink2Description: Datasheet; ComponentLink2URL: http://www.infineon.com/dgdl/BSC011N03LS_Rev+2.1_.pdf?folderId=db3a304313b8b5a60113cee8763b02d7&fileId=db3a30432c64a60d012cbb2c20ff02a0; ComponentLink3Description: Package Specification; ComponentLink3URL: http://www.infineon.com/cms/packages/SMD_-_Surface_Mounted_Devices/P-PG-TDSON/P-PG-TDSON-08-01x_2x_3.html?__locale=en
footprint INF-PG-TDSON-8-1_V (TDSON, 8-Leads, Body 6.15x5.15mm, Pitch 1.27mm)
pins: 1 SOURCE, 2 SOURCE, 3 SOURCE, 4 GATE, 5 DRAIN, 6 DRAIN, 7 DRAIN, 8 DRAIN
text: 5, 6, 7, 8; 1, 2, 3

## BSC011N03LSI
designator Q?
N-Channel Power MOSFET, 30 V VDS, 100 A ID, -55 to 150 degC, PG-TDSON-8-1, Reel, Green; Manufacturer: Infineon; PartNumber: BSC011N03LSI; Green: TRUE; ID (max): 100 A; IDpuls (max): 400 A; Polarity: N; Ptot (max): 96 W; QG: 68 nC; RDS (on) (max): 1.1 mOhm; RDS (on) (max) (@4.5V): 1.5 mOhm; Rth: 1.3 K/W; RthJA (max): 50 K/W; RthJC (max): 1.3 K/W; VDS (max): 30 V; VGS(th) (max): 2 V; VGS(th) (min): 1.2 V; DatasheetVersion: Rev. 2.1; PackageReference: PG-TDSON-8-1; PackageDescription: 8-Pin Plastic (Green) Thin Dual Small Outline Non-Leaded Package, 5.15 x 5.9 mm Body, 1.27 mm Pitch; Supplier 1: Digi-Key; Supplier Part Number 1: BSC011N03LSITR-ND; Supplier 2: Digi-Key; Supplier Part Number 2: BSC011N03LSICT-ND; Supplier 3: Digi-Key; Supplier Part Number 3: BSC011N03LSIDKR-ND; Halogen-free: TRUE; Packing: Reel; Mounting Technology: Surface Mount; ComponentLink1Description: Manufacturer URL; ComponentLink1URL: http://www.infineon.com/; ComponentLink2Description: Datasheet; ComponentLink2URL: http://www.infineon.com/dgdl/BSC011N03LSI_Rev_2.1.pdf?folderId=db3a304313b8b5a60113cee8763b02d7&fileId=db3a30433072cd8f013097dfdcc22f66; ComponentLink3Description: Package Specification; ComponentLink3URL: http://www.infineon.com/cms/packages/SMD_-_Surface_Mounted_Devices/P-PG-TDSON/P-PG-TDSON-08-01x_2x_3.html?__locale=en
footprint INF-PG-TDSON-8-1_V (TDSON, 8-Leads, Body 6.15x5.15mm, Pitch 1.27mm)
pins: 1 SOURCE, 2 SOURCE, 3 SOURCE, 4 GATE, 5 DRAIN, 6 DRAIN, 7 DRAIN, 8 DRAIN
text: 5, 6, 7, 8; 1, 2, 3

## BSC12DN20NS3 G
designator Q?
N-Channel OptiMOS 3 Power-Transistor, 200 V VDS, 11.3 A ID, -55 to 150 degC, PG-TDSON-8-1, Reel, Green; Manufacturer: Infineon; PartNumber: BSC12DN20NS3 G; Green: TRUE; ID (max): 11.3 A; IDpuls (max): 45 A; Polarity: N; Ptot (max): 50 W; QG: 6.5 nC; RDS (on) (max): 125 mOhm; Rth: 2.5 K/W; RthJA (max): 50 K/W; RthJC (max): 2.5 K/W; VDS (max): 200 V; VGS(th) (max): 4 V; VGS(th) (min): 2 V; DatasheetVersion: Rev. 2.2; PackageReference: PG-TDSON-8-1; PackageDescription: 8-Pin Plastic (Green) Thin Dual Small Outline Non-Leaded Package, 5.15 x 5.9 mm Body, 1.27 mm Pitch; Supplier 1: Digi-Key; Supplier Part Number 1: BSC12DN20NS3GTR-ND; Supplier 2: Digi-Key; Supplier Part Number 2: BSC12DN20NS3GCT-ND; Supplier 3: Digi-Key; Supplier Part Number 3: BSC12DN20NS3GDKR-ND; Halogen-free: TRUE; Packing: Reel; Mounting Technology: Surface Mount; ComponentLink1Description: Manufacturer URL; ComponentLink1URL: http://www.infineon.com/; ComponentLink2Description: Datasheet; ComponentLink2URL: http://www.infineon.com/dgdl/BSC12DN20NS3+Rev2.2.pdf?folderId=db3a304325305e6d012596c6ca7b290a&fileId=db3a30432ad629a6012b146334d419ec; ComponentLink3Description: Package Specification; ComponentLink3URL: http://www.infineon.com/cms/packages/SMD_-_Surface_Mounted_Devices/P-PG-TDSON/P-PG-TDSON-08-01x_2x_3.html?__locale=en
footprint INF-PG-TDSON-8-1_V (TDSON, 8-Leads, Body 6.15x5.15mm, Pitch 1.27mm)
pins: 1 SOURCE, 2 SOURCE, 3 SOURCE, 4 GATE, 5 DRAIN, 6 DRAIN, 7 DRAIN, 8 DRAIN
text: 5, 6, 7, 8; 1, 2, 3

## BSC014N03LS G
designator Q?
N-Channel OptiMOS 3 Power-MOSFET, 30 V VDS, 100 A ID, -55 to 150 degC, PG-TDSON-8-1, Reel, Green; Manufacturer: Infineon; PartNumber: BSC014N03LS G; Green: TRUE; ID (max): 100 A; IDpuls (max): 400 A; Polarity: N; Ptot (max): 139 W; QG: 47 nC; RDS (on) (max): 1.4 mOhm; RDS (on) (max) (@4.5V): 2.1 mOhm; Rth: 0.9 K/W; RthJA (max): 50 K/W; VDS (max): 30 V; VGS(th) (max): 2.2 V; VGS(th) (min): 1 V; DatasheetVersion: Rev. 1.3; PackageReference: PG-TDSON-8-1; PackageDescription: 8-Pin Plastic (Green) Thin Dual Small Outline Non-Leaded Package, 5.15 x 5.9 mm Body, 1.27 mm Pitch; Supplier 1: Mouser; Supplier Part Number 1: 726-BSC014N03LSG; Supplier 2: Digi-Key; Supplier Part Number 2: BSC014N03LS GTR-ND; Supplier 3: Digi-Key; Supplier Part Number 3: BSC014N03LS GCT-ND; Supplier 4: Digi-Key; Supplier Part Number 4: BSC014N03LS GDKR-ND; Halogen-free: TRUE; Packing: Reel; RthJC (max): 0.9 K/W; Mounting Technology: Surface Mount; ComponentLink1Description: Manufacturer URL; ComponentLink1URL: http://www.infineon.com/; ComponentLink2Description: Datasheet; ComponentLink2URL: http://www.infineon.com/dgdl/BSC014N03LS_rev1.3.pdf?folderId=db3a304313b8b5a60113cee8ed2a02db&fileId=db3a30431be39b97011c23384f5d77fb; ComponentLink3Description: Package Specification; ComponentLink3URL: http://www.infineon.com/cms/packages/SMD_-_Surface_Mounted_Devices/P-PG-TDSON/P-PG-TDSON-08-01x_2x_3.html?__locale=en
footprint INF-PG-TDSON-8-1_V (TDSON, 8-Leads, Body 6.15x5.15mm, Pitch 1.27mm)
pins: 1 SOURCE, 2 SOURCE, 3 SOURCE, 4 GATE, 5 DRAIN, 6 DRAIN, 7 DRAIN, 8 DRAIN
text: 5, 6, 7, 8; 1, 2, 3

## BSC014N03MS G
designator Q?
N-Channel OptiMOS 3 M-Series Power-MOSFET, 30 V VDS, 100 A ID, -55 to 150 degC, PG-TDSON-8-1, Reel, Green; Manufacturer: Infineon; PartNumber: BSC014N03MS G; Green: TRUE; ID (max): 100 A; IDpuls (max): 400 A; Polarity: N; Ptot (max): 139 W; QG: 63 nC; RDS (on) (max): 1.4 mOhm; RDS (on) (max) (@4.5V): 1.75 mOhm; Rth: 0.9 K/W; RthJA (max): 50 K/W; VDS (max): 30 V; VGS(th) (max): 2 V; VGS(th) (min): 1 V; DatasheetVersion: Rev. 1.5; PackageReference: PG-TDSON-8-1; PackageDescription: 8-Pin Plastic (Green) Thin Dual Small Outline Non-Leaded Package, 5.15 x 5.9 mm Body, 1.27 mm Pitch; Supplier 1: Mouser; Supplier Part Number 1: 726-BSC014N03MSG; Supplier 2: Digi-Key; Supplier Part Number 2: BSC014N03MS GTR-ND; Supplier 3: Digi-Key; Supplier Part Number 3: BSC014N03MS GCT-ND; Supplier 4: Digi-Key; Supplier Part Number 4: BSC014N03MS GDKR-ND; Halogen-free: TRUE; Packing: Reel; RthJC (max): 0.9 K/W; Mounting Technology: Surface Mount; ComponentLink1Description: Manufacturer URL; ComponentLink1URL: http://www.infineon.com/; ComponentLink2Description: Datasheet; ComponentLink2URL: http://www.infineon.com/dgdl/BSC014N03MSG_rev1.5.pdf?folderId=db3a304313d846880113d91d60c500c4&fileId=db3a304319c6f18c011a38f5a96704e8; ComponentLink3Description: Package Specification; ComponentLink3URL: http://www.infineon.com/cms/packages/SMD_-_Surface_Mounted_Devices/P-PG-TDSON/P-PG-TDSON-08-01x_2x_3.html?__locale=en
footprint INF-PG-TDSON-8-1_V (TDSON, 8-Leads, Body 6.15x5.15mm, Pitch 1.27mm)
pins: 1 SOURCE, 2 SOURCE, 3 SOURCE, 4 GATE, 5 DRAIN, 6 DRAIN, 7 DRAIN, 8 DRAIN
text: 5, 6, 7, 8; 1, 2, 3

## BSC014NE2LSI
designator Q?
N-Channel OptiMOS Power-MOSFET, 25 V VDS, 100 A ID, -55 to 150 degC, PG-TDSON-8-1, Reel, Green; Manufacturer: Infineon; PartNumber: BSC014NE2LSI; Green: TRUE; ID (max): 100 A; IDpuls (max): 400 A; Polarity: N; Ptot (max): 74 W; QG: 39 nC; RDS (on) (max): 1.4 mOhm; RDS (on) (max) (@4.5V): 2 mOhm; Rth: 1.7 K/W; RthJA (max): 50 K/W; RthJC (max): 1.7 K/W; VDS (max): 25 V; VGS(th) (max): 2 V; VGS(th) (min): 1.2 V; DatasheetVersion: Rev. 2.1; PackageReference: PG-TDSON-8-1; PackageDescription: 8-Pin Plastic (Green) Thin Dual Small Outline Non-Leaded Package, 5.15 x 5.9 mm Body, 1.27 mm Pitch; Supplier 1: Digi-Key; Supplier Part Number 1: BSC014NE2LSITR-ND; Supplier 2: Digi-Key; Supplier Part Number 2: BSC014NE2LSICT-ND; Supplier 3: Digi-Key; Supplier Part Number 3: BSC014NE2LSIDKR-ND; Halogen-free: TRUE; Packing: Reel; Mounting Technology: Surface Mount; ComponentLink1Description: Manufacturer URL; ComponentLink1URL: http://www.infineon.com/; ComponentLink2Description: Datasheet; ComponentLink2URL: http://www.infineon.com/dgdl/BSC014NE2LSI_Rev+2.1_.pdf?folderId=db3a304313b8b5a60113cee8763b02d7&fileId=db3a30433072cd8f013093b0024571b1; ComponentLink3Description: Package Specification; ComponentLink3URL: http://www.infineon.com/cms/packages/SMD_-_Surface_Mounted_Devices/P-PG-TDSON/P-PG-TDSON-08-01x_2x_3.html?__locale=en
footprint INF-PG-TDSON-8-1_V (TDSON, 8-Leads, Body 6.15x5.15mm, Pitch 1.27mm)
pins: 1 SOURCE, 2 SOURCE, 3 SOURCE, 4 GATE, 5 DRAIN, 6 DRAIN, 7 DRAIN, 8 DRAIN
text: 5, 6, 7, 8; 1, 2, 3

## BSC16DN25NS3 G
designator Q?
N-Channel OptiMOS 3 Power-Transistor, 250 V VDS, 10.9 A ID, -55 to 150 degC, PG-TDSON-8-1, Reel, Green; Manufacturer: Infineon; PartNumber: BSC16DN25NS3 G; Green: TRUE; ID (max): 10.9 A; IDpuls (max): 44 A; Polarity: N; Ptot (max): 62.5 W; QG: 8.6 nC; RDS (on) (max): 165 mOhm; Rth: 2 K/W; RthJA (max): 50 K/W; VDS (max): 250 V; VGS(th) (max): 4 V; VGS(th) (min): 2 V; DatasheetVersion: Rev. 2.2; PackageReference: PG-TDSON-8-1; PackageDescription: 8-Pin Plastic (Green) Thin Dual Small Outline Non-Leaded Package, 5.15 x 5.9 mm Body, 1.27 mm Pitch; Supplier 1: Digi-Key; Supplier Part Number 1: BSC16DN25NS3GTR-ND; Supplier 2: Digi-Key; Supplier Part Number 2: BSC16DN25NS3GCT-ND; Supplier 3: Digi-Key; Supplier Part Number 3: BSC16DN25NS3GDKR-ND; Halogen-free: TRUE; Packing: Reel; RthJC (max): 2 K/W; Mounting Technology: Surface Mount; ComponentLink1Description: Manufacturer URL; ComponentLink1URL: http://www.infineon.com/; ComponentLink2Description: Datasheet; ComponentLink2URL: http://www.infineon.com/dgdl/BSC16DN25NS3+Rev2.2.pdf?folderId=db3a304325305e6d012596c6ca7b290a&fileId=db3a30432ad629a6012b1564f4541a33; ComponentLink3Description: Package Specification; ComponentLink3URL: http://www.infineon.com/cms/packages/SMD_-_Surface_Mounted_Devices/P-PG-TDSON/P-PG-TDSON-08-01x_2x_3.html?__locale=en
footprint INF-PG-TDSON-8-1_V (TDSON, 8-Leads, Body 6.15x5.15mm, Pitch 1.27mm)
pins: 1 SOURCE, 2 SOURCE, 3 SOURCE, 4 GATE, 5 DRAIN, 6 DRAIN, 7 DRAIN, 8 DRAIN
text: 5, 6, 7, 8; 1, 2, 3

## BSC016N03LS G
designator Q?
N-Channel OptiMOS 3 Power-MOSFET, 30 V VDS, 100 A ID, -55 to 150 degC, PG-TDSON-8-1, Reel, Green; Manufacturer: Infineon; PartNumber: BSC016N03LS G; Green: TRUE; ID (max): 100 A; IDpuls (max): 400 A; Polarity: N; Ptot (max): 125 W; QG: 56 nC; RDS (on) (max): 1.6 mOhm; RDS (on) (max) (@4.5V): 2.3 mOhm; Rth: 1 K/W; RthJA (max): 50 K/W; VDS (max): 30 V; VGS(th) (max): 2.2 V; VGS(th) (min): 1 V; DatasheetVersion: Rev. 1.28; PackageReference: PG-TDSON-8-1; PackageDescription: 8-Pin Plastic (Green) Thin Dual Small Outline Non-Leaded Package, 5.15 x 5.9 mm Body, 1.27 mm Pitch; Supplier 1: Mouser; Supplier Part Number 1: 726-BSC016N03LSG; Supplier 2: Digi-Key; Supplier Part Number 2: BSC016N03LS GTR-ND; Supplier 3: Digi-Key; Supplier Part Number 3: BSC016N03LS GCT-ND; Supplier 4: Digi-Key; Supplier Part Number 4: BSC016N03LS GDKR-ND; Halogen-free: TRUE; Packing: Reel; RthJC (max): 1 K/W; Mounting Technology: Surface Mount; ComponentLink1Description: Manufacturer URL; ComponentLink1URL: http://www.infineon.com/; ComponentLink2Description: Datasheet; ComponentLink2URL: http://www.infineon.com/dgdl/BSC016N03LS_rev1.28.pdf?folderId=db3a304412b407950112b408e8c90004&fileId=db3a304412b407950112b42761a13c1b; ComponentLink3Description: Package Specification; ComponentLink3URL: http://www.infineon.com/cms/packages/SMD_-_Surface_Mounted_Devices/P-PG-TDSON/P-PG-TDSON-08-01x_2x_3.html?__locale=en
footprint INF-PG-TDSON-8-1_V (TDSON, 8-Leads, Body 6.15x5.15mm, Pitch 1.27mm)
pins: 1 SOURCE, 2 SOURCE, 3 SOURCE, 4 GATE, 5 DRAIN, 6 DRAIN, 7 DRAIN, 8 DRAIN
text: 5, 6, 7, 8; 1, 2, 3

## BSC016N03MS G
designator Q?
N-Channel OptiMOS 3 M-Series Power-MOSFET, 30 V VDS, 100 A ID, -55 to 150 degC, PG-TDSON-8-1, Reel, Green; Manufacturer: Infineon; PartNumber: BSC016N03MS G; Green: TRUE; ID (max): 100 A; IDpuls (max): 400 A; Polarity: N; Ptot (max): 125 W; QG: 63 nC; RDS (on) (max): 1.6 mOhm; RDS (on) (max) (@4.5V): 2 mOhm; Rth: 1 K/W; RthJA (max): 50 K/W; VDS (max): 30 V; VGS(th) (max): 2 V; VGS(th) (min): 1 V; DatasheetVersion: Rev. 1.17; PackageReference: PG-TDSON-8-1; PackageDescription: 8-Pin Plastic (Green) Thin Dual Small Outline Non-Leaded Package, 5.15 x 5.9 mm Body, 1.27 mm Pitch; Supplier 1: Mouser; Supplier Part Number 1: 726-BSC016N03MSG; Supplier 2: Digi-Key; Supplier Part Number 2: BSC016N03MSGINTR-ND; Supplier 3: Digi-Key; Supplier Part Number 3: BSC016N03MSGINCT-ND; Supplier 4: Digi-Key; Supplier Part Number 4: BSC016N03MSGINDKR-ND; Halogen-free: TRUE; Packing: Reel; RthJC (max): 1 K/W; Mounting Technology: Surface Mount; ComponentLink1Description: Manufacturer URL; ComponentLink1URL: http://www.infineon.com/; ComponentLink2Description: Datasheet; ComponentLink2URL: http://www.infineon.com/dgdl/BSC016N03MSG_rev1.17.pdf?folderId=db3a304313d846880113d91d60c500c4&fileId=db3a304313d846880113de4a19bb0334; ComponentLink3Description: Package Specification; ComponentLink3URL: http://www.infineon.com/cms/packages/SMD_-_Surface_Mounted_Devices/P-PG-TDSON/P-PG-TDSON-08-01x_2x_3.html?__locale=en
footprint INF-PG-TDSON-8-1_V (TDSON, 8-Leads, Body 6.15x5.15mm, Pitch 1.27mm)
pins: 1 SOURCE, 2 SOURCE, 3 SOURCE, 4 GATE, 5 DRAIN, 6 DRAIN, 7 DRAIN, 8 DRAIN
text: 5, 6, 7, 8; 1, 2, 3

## BSC016N04LS G
designator Q?
N-Channel OptiMOS 3 Power-Transistor, 40 V VDS, 100 A ID, -55 to 150 degC, PG-TDSON-8-1, Reel, Green; Manufacturer: Infineon; PartNumber: BSC016N04LS G; Green: TRUE; ID (max): 100 A; IDpuls (max): 400 A; Polarity: N; Ptot (max): 139 W; QG: 113 nC; RDS (on) (max): 1.6 mOhm; RDS (on) (max) (@4.5V): 2.3 mOhm; Rth: 0.9 K/W; RthJA (max): 50 K/W; VDS (max): 40 V; VGS(th) (max): 2 V; VGS(th) (min): 1.2 V; DatasheetVersion: Rev. 2.0; PackageReference: PG-TDSON-8-1; PackageDescription: 8-Pin Plastic (Green) Thin Dual Small Outline Non-Leaded Package, 5.15 x 5.9 mm Body, 1.27 mm Pitch; Supplier 1: Mouser; Supplier Part Number 1: 726-BSC016N04LSG; Supplier 2: Newark; Supplier Part Number 2: 79X1326; Supplier 3: Farnell; Supplier Part Number 3: 2432701; Supplier 4: Digi-Key; Supplier Part Number 4: BSC016N04LS GTR-ND; Supplier 5: Digi-Key; Supplier Part Number 5: BSC016N04LS GCT-ND; Supplier 6: Digi-Key; Supplier Part Number 6: BSC016N04LS GDKR-ND; Halogen-free: TRUE; Packing: Reel; RthJC (max): 0.9 K/W; Mounting Technology: Surface Mount; ComponentLink1Description: Manufacturer URL; ComponentLink1URL: http://www.infineon.com/; ComponentLink2Description: Datasheet; ComponentLink2URL: http://www.infineon.com/dgdl/BSC016N04LSG_rev2.pdf?folderId=db3a304313b8b5a60113cee8763b02d7&fileId=db3a304318a6cd680118efe284830226; ComponentLink3Description: Package Specification; ComponentLink3URL: http://www.infineon.com/cms/packages/SMD_-_Surface_Mounted_Devices/P-PG-TDSON/P-PG-TDSON-08-01x_2x_3.html?__locale=en
footprint INF-PG-TDSON-8-1_V (TDSON, 8-Leads, Body 6.15x5.15mm, Pitch 1.27mm)
pins: 1 SOURCE, 2 SOURCE, 3 SOURCE, 4 GATE, 5 DRAIN, 6 DRAIN, 7 DRAIN, 8 DRAIN
text: 5, 6, 7, 8; 1, 2, 3

## BSC017N04NS G
designator Q?
N-Channel OptiMOS 3 Power-Transistor, 40 V VDS, 100 A ID, -55 to 150 degC, PG-TDSON-8-1, Reel, Green; Manufacturer: Infineon; PartNumber: BSC017N04NS G; Green: TRUE; ID (max): 100 A; IDpuls (max): 400 A; Polarity: N; Ptot (max): 139 W; QG: 81 nC; RDS (on) (max): 1.7 mOhm; Rth: 0.9 K/W; RthJA (max): 50 K/W; VDS (max): 40 V; VGS(th) (max): 4 V; VGS(th) (min): 2 V; DatasheetVersion: Rev. 1.24; PackageReference: PG-TDSON-8-1; PackageDescription: 8-Pin Plastic (Green) Thin Dual Small Outline Non-Leaded Package, 5.15 x 5.9 mm Body, 1.27 mm Pitch; Supplier 1: Mouser; Supplier Part Number 1: 726-BSC017N04NSG; Supplier 2: Digi-Key; Supplier Part Number 2: BSC017N04NS GTR-ND; Supplier 3: Digi-Key; Supplier Part Number 3: BSC017N04NS GCT-ND; Supplier 4: Digi-Key; Supplier Part Number 4: BSC017N04NS GDKR-ND; Halogen-free: TRUE; Packing: Reel; RthJC (max): 0.9 K/W; Mounting Technology: Surface Mount; ComponentLink1Description: Manufacturer URL; ComponentLink1URL: http://www.infineon.com/; ComponentLink2Description: Datasheet; ComponentLink2URL: http://www.infineon.com/dgdl/BSC017N04NSG_rev1.24.pdf?folderId=db3a304313b8b5a60113cee8763b02d7&fileId=db3a304318a6cd680118efe5d5a60236; ComponentLink3Description: Package Specification; ComponentLink3URL: http://www.infineon.com/cms/packages/SMD_-_Surface_Mounted_Devices/P-PG-TDSON/P-PG-TDSON-08-01x_2x_3.html?__locale=en
footprint INF-PG-TDSON-8-1_V (TDSON, 8-Leads, Body 6.15x5.15mm, Pitch 1.27mm)
pins: 1 SOURCE, 2 SOURCE, 3 SOURCE, 4 GATE, 5 DRAIN, 6 DRAIN, 7 DRAIN, 8 DRAIN
text: 5, 6, 7, 8; 1, 2, 3

## BSC018N04LS G
designator Q?
N-Channel OptiMOS 3 Power-Transistor, 40 V VDS, 100 A ID, -55 to 150 degC, PG-TDSON-8-1, Reel, Green; Manufacturer: Infineon; PartNumber: BSC018N04LS G; Green: TRUE; ID (max): 100 A; IDpuls (max): 400 A; Polarity: N; Ptot (max): 125 W; QG: 54 nC; RDS (on) (max): 1.8 mOhm; RDS (on) (max) (@4.5V): 2.5 mOhm; Rth: 1 K/W; RthJA (max): 50 K/W; VDS (max): 40 V; VGS(th) (max): 2 V; VGS(th) (min): 1.2 V; DatasheetVersion: Rev. 1.4; PackageReference: PG-TDSON-8-1; PackageDescription: 8-Pin Plastic (Green) Thin Dual Small Outline Non-Leaded Package, 5.15 x 5.9 mm Body, 1.27 mm Pitch; Supplier 1: Mouser; Supplier Part Number 1: 726-BSC018N04LSG; Supplier 2: Digi-Key; Supplier Part Number 2: BSC018N04LS GTR-ND; Supplier 3: Digi-Key; Supplier Part Number 3: BSC018N04LS GCT-ND; Supplier 4: Digi-Key; Supplier Part Number 4: BSC018N04LS GDKR-ND; Halogen-free: TRUE; Packing: Reel; RthJC (max): 1 K/W; Mounting Technology: Surface Mount; ComponentLink1Description: Manufacturer URL; ComponentLink1URL: http://www.infineon.com/; ComponentLink2Description: Datasheet; ComponentLink2URL: http://www.infineon.com/dgdl/BSC018N04LSG_rev1.4.pdf?folderId=db3a304412b407950112b408e8c90004&fileId=db3a30431689f4420116c42d085d0808; ComponentLink3Description: Package Specification; ComponentLink3URL: http://www.infineon.com/cms/packages/SMD_-_Surface_Mounted_Devices/P-PG-TDSON/P-PG-TDSON-08-01x_2x_3.html?__locale=en
footprint INF-PG-TDSON-8-1_V (TDSON, 8-Leads, Body 6.15x5.15mm, Pitch 1.27mm)
pins: 1 SOURCE, 2 SOURCE, 3 SOURCE, 4 GATE, 5 DRAIN, 6 DRAIN, 7 DRAIN, 8 DRAIN
text: 5, 6, 7, 8; 1, 2, 3

## BSC018NE2LS
designator Q?
N-Channel OptiMOS Power-MOSFET, 25 V VDS, 100 A ID, -55 to 150 degC, PG-TDSON-8-1, Reel, Green; Manufacturer: Infineon; PartNumber: BSC018NE2LS; Green: TRUE; ID (max): 100 A; IDpuls (max): 400 A; Polarity: N; Ptot (max): 69 W; QG: 39 nC; RDS (on) (max): 1.8 mOhm; RDS (on) (max) (@4.5V): 2.3 mOhm; Rth: 1.8 K/W; RthJA (max): 50 K/W; VDS (max): 25 V; VGS(th) (max): 2 V; VGS(th) (min): 1.2 V; DatasheetVersion: Rev. 2.1; PackageReference: PG-TDSON-8-1; PackageDescription: 8-Pin Plastic (Green) Thin Dual Small Outline Non-Leaded Package, 5.15 x 5.9 mm Body, 1.27 mm Pitch; Supplier 1: Mouser; Supplier Part Number 1: 726-BSC018NE2LS; Supplier 2: Digi-Key; Supplier Part Number 2: BSC018NE2LSTR-ND; Supplier 3: Digi-Key; Supplier Part Number 3: BSC018NE2LSCT-ND; Supplier 4: Digi-Key; Supplier Part Number 4: BSC018NE2LSDKR-ND; Halogen-free: TRUE; Packing: Reel; RthJC (max): 1.8 K/W; Mounting Technology: Surface Mount; ComponentLink1Description: Manufacturer URL; ComponentLink1URL: http://www.infineon.com/; ComponentLink2Description: Datasheet; ComponentLink2URL: http://www.infineon.com/dgdl/BSC018NE2LS_Rev+2.1.pdf?folderId=db3a304313b8b5a60113cee8763b02d7&fileId=db3a30432c64a60d012ca6b7736b2f40; ComponentLink3Description: Package Specification; ComponentLink3URL: http://www.infineon.com/cms/packages/SMD_-_Surface_Mounted_Devices/P-PG-TDSON/P-PG-TDSON-08-01x_2x_3.html?__locale=en
footprint INF-PG-TDSON-8-1_V (TDSON, 8-Leads, Body 6.15x5.15mm, Pitch 1.27mm)
pins: 1 SOURCE, 2 SOURCE, 3 SOURCE, 4 GATE, 5 DRAIN, 6 DRAIN, 7 DRAIN, 8 DRAIN
text: 5, 6, 7, 8; 1, 2, 3